# Altium integrated library Diode SS12.IntLib: 1 symbol
Pins are listed as number, name and electrical type; pins without a type are passive.

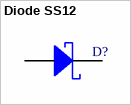
[diagram p0: symbol Diode SS12]

## Diode SS12
designator D?, comment SS12  (value not drawn)
DIODE SCHOTTKY 20V 1A
footprint DO-214AC
pins: 1 A, 2 K